# Altium footprint library PcbLib_ADH.PcbLib: 136 footprints (part 1 of 9)
Each footprint in its own frame and in the unit in brackets; x right, y up, seen from the top. Pads: shape width x height; smd on the part's side, far side on the other; paste and mask are expansions set on the pad; w line width, h text height; cw(c..) or ccw(c..) is an arc to the next point about the centre after c.
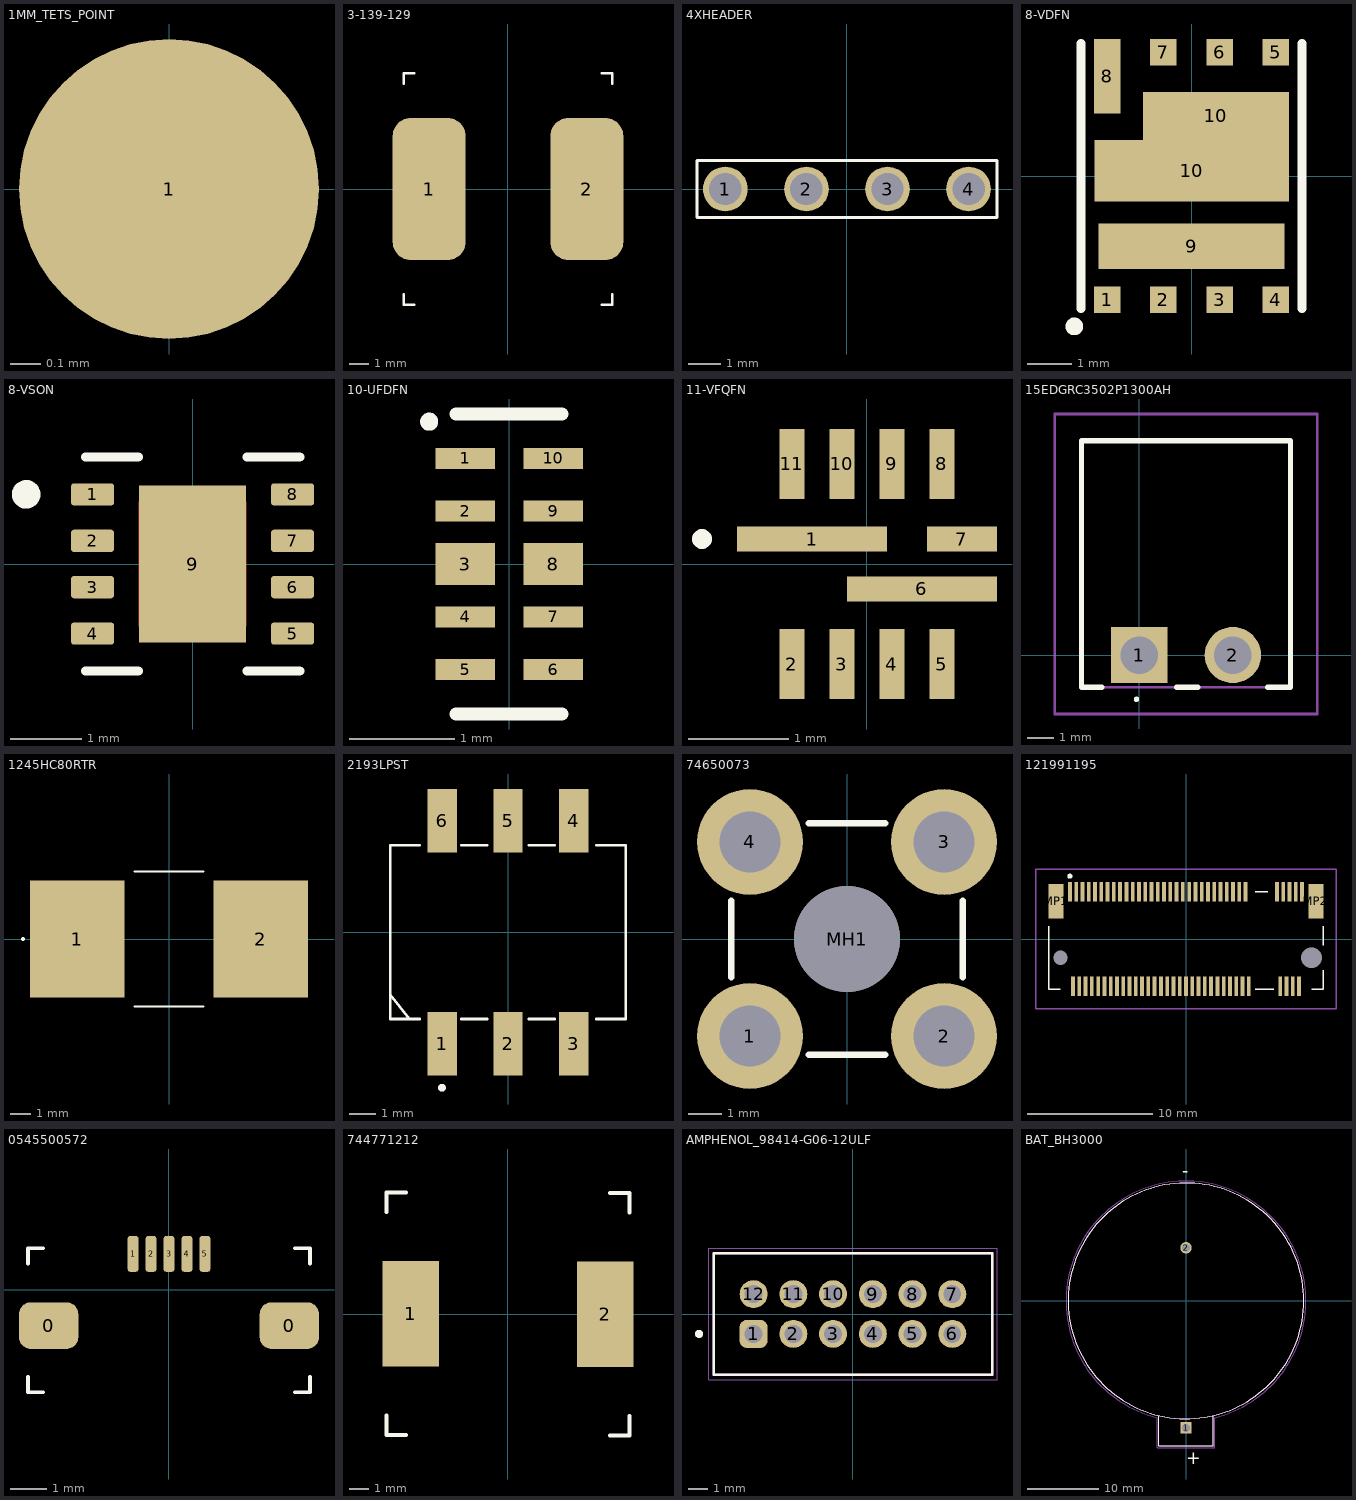
[diagram p0: the footprints below, top view; thin cyan lines are the x and y axes]

## 1MM_TETS_POINT [mm]
pads (1):
  round 1 smd: 1(0,0)

## 3-139-129 [mm]
pads (2):
  rrect50% 3.7x7.2 smd: 1(-3.987,0) 2(3.987,0)
Top Overlay:
  lines w0.127: -5.275,-5.325 -5.275,-5.85 -4.75,-5.85 ; -5.275,5.325 -5.275,5.85 -4.75,5.85 ; 4.75,-5.85 5.275,-5.85 5.275,-5.325 ; 4.75,5.85 5.275,5.85 5.275,5.325
3D body "UHP Fuse D10-058-537_02.STEP": height 6.93, standoff 0.08, extent -5.111,-5.7 5.111,5.7

## 4XHEADER [mm]
pads (4):
  round 1.4 hole 1.016: 1(-3.81,0) 2(-1.27,0) 3(1.27,0) 4(3.81,0)
Top Overlay:
  lines w0.1: -4.699,-0.889 4.7,-0.889 4.7,0.889 -4.699,0.889 -4.699,-0.889
3D body "User Library-128x64I2COLEDDisplayAdafruit.STEP": height 14.47, standoff 3.63, extent -13.4,-25.675 13.3,2.185
3D body "User Library-ZL262-4SG.STEP": height 7.91, standoff -3.64, extent -5.1,-1.35 5.06,1.15

## 8-VDFN [mm]
pads (11):
  rect 0.6x0.6 smd: 1(-1.905,-2.8) 2(-0.635,-2.8) 3(0.635,-2.8) 4(1.905,-2.8) 5(1.905,2.8) 6(0.635,2.8) 7(-0.635,2.8)
  rect 0.6x1.68 smd: 8(-1.905,2.26)
  rect 4.2x1.03 smd: 9(0,-1.585)
  rect 4.4x1.39 smd: 10(0,0.125)
  rect 3.3x1.08 smd: 10(0.55,1.36)
Top Overlay:
  circle w0.2: c-2.65,-3.4 r0.1
  lines w0.2: -2.5,-3 -2.5,3 ; 2.5,-3 2.5,3
3D body "AOE6930.stp": height 0.95, standoff 0, extent -2.5,-3.04 2.5,3.04

## 8-VSON [mm]
pads (9):
  rrect25% 0.6x0.31 smd mask+0: 1(-1.4,0.975) 2(-1.4,0.325) 3(-1.4,-0.325) 4(-1.4,-0.975) 5(1.4,-0.975) 6(1.4,-0.325) 7(1.4,0.325) 8(1.4,0.975)
  rect 1.5x2.2 smd paste-2 mask+0: 9(0,0)
Top Layer:
  region: 0.44,0.875 0.75,0.875 0.75,-0.875 0.44,-0.875 0.21,-0.875 -0.21,-0.875 -0.44,-0.875 -0.75,-0.875 -0.75,0.875 -0.44,0.875 -0.21,0.875 0.21,0.875
Top Overlay:
  circle w0.2: c-2.33,0.975 r0.1
  lines w0.127: -1.5,-1.5 -0.76,-1.5 ; -1.5,1.5 -0.76,1.5 ; 0.76,-1.5 1.5,-1.5 ; 0.76,1.5 1.5,1.5
Top Paste:
  region: 0.75,-1.099 -0.75,-1.099 -0.75,1.1 0.75,1.1
Top Solder:
  region: 0.82,1.15 0.82,-1.15 -0.82,-1.15 -0.82,1.15
  region: -1.03,0.75 -1.77,0.75 -1.77,1.2 -1.03,1.2
  region: 1.77,0.75 1.03,0.75 1.03,1.2 1.77,1.2
  region: -1.03,0.1 -1.77,0.1 -1.77,0.55 -1.03,0.55
  region: -1.03,-0.55 -1.77,-0.55 -1.77,-0.1 -1.03,-0.1
  region: -1.03,-1.2 -1.77,-1.2 -1.77,-0.75 -1.03,-0.75
  region: 1.77,0.1 1.03,0.1 1.03,0.55 1.77,0.55
  region: 1.77,-0.55 1.03,-0.55 1.03,-0.1 1.77,-0.1
  region: 1.77,-1.2 1.03,-1.2 1.03,-0.75 1.77,-0.75
3D body "TPS78601DRBR.STEP": height 1.01, standoff 0.01, extent -1.5,-1.5 1.5,1.5

## 10-UFDFN [mm]
pads (10):
  rect 0.565x0.2 smd mask+0: 1(-0.417,1) 2(-0.417,0.5) 4(-0.417,-0.5) 5(-0.417,-1) 6(0.417,-1) 7(0.417,-0.5) 9(0.417,0.5) 10(0.417,1)
  rect 0.565x0.4 smd paste-1 mask+0: 3(-0.417,0) 8(0.417,0)
Top Overlay:
  circle w0.1: c-0.758,1.347 r0.035
  lines w0.127: -0.5,-1.42 0.5,-1.42 ; -0.5,1.42 0.5,1.42
Top Paste:
  region: 0.7,-0.18 0.135,-0.18 0.135,0.18 0.7,0.18
  region: -0.135,-0.18 -0.7,-0.18 -0.7,0.18 -0.135,0.18
Top Solder:
  region: 0.77,-1.17 0.065,-1.17 0.065,-0.83 0.77,-0.83
  region: 0.77,-0.67 0.065,-0.67 0.065,-0.33 0.77,-0.33
  region: 0.77,-0.27 0.065,-0.27 0.065,0.27 0.77,0.27
  region: 0.77,0.33 0.065,0.33 0.065,0.67 0.77,0.67
  region: 0.77,0.83 0.065,0.83 0.065,1.17 0.77,1.17
  region: -0.065,-1.17 -0.77,-1.17 -0.77,-0.83 -0.065,-0.83
  region: -0.065,-0.67 -0.77,-0.67 -0.77,-0.33 -0.065,-0.33
  region: -0.065,-0.27 -0.77,-0.27 -0.77,0.27 -0.065,0.27
  region: -0.065,0.33 -0.77,0.33 -0.77,0.67 -0.065,0.67
  region: -0.065,0.83 -0.77,0.83 -0.77,1.17 -0.065,1.17
3D body "step_temp.STEP": height 0.55, standoff 0, extent -0.5,-1.25 0.5,1.25

## 11-VFQFN [mm]
pads (11):
  rect 1.5x0.25 smd: 1(-0.55,0.25) 6(0.55,-0.25)
  rect 0.25x0.7 smd: 2(-0.75,-1) 3(-0.25,-1) 4(0.25,-1) 5(0.75,-1) 8(0.75,1) 9(0.25,1) 10(-0.25,1) 11(-0.75,1)
  rect 0.7x0.25 smd: 7(0.95,0.25)
Top Overlay:
  lines w0.1: -1.7,0.25 ccw(c-1.65,0.25) -1.6,0.25 ccw(c-1.65,0.25) -1.7,0.25
3D body "MP2384CGG-Z.stp": height 1.1, standoff 0, extent -1,-1 1,1

## 15EDGRC3502P1300AH [mm]
pads (2):
  rect 2.1x2.1 hole 1.4: 1(0,0)
  round 2.1 hole 1.4: 2(3.5,0)
Top Overlay:
  lines w0.1: -0.1,-1.7 ccw(c-0.1,-1.65) -0.1,-1.6 ; -0.1,-1.7 cw(c-0.1,-1.65) -0.1,-1.6 ; -0.1,-1.7 ccw(c-0.1,-1.65) -0.1,-1.6
  lines w0.2: -1.4,-1.2 -2.15,-1.2 -2.15,8 5.65,8 5.65,-1.2 4.8,-1.2 ; 1.4,-1.2 2.2,-1.2
Mechanical 15:
  lines w0.1: -2.15,-1.2 5.65,-1.2 5.65,8 -2.15,8 -2.15,-1.2
Mechanical 20:
  lines w0.1: -3.15,-2.2 6.65,-2.2 6.65,9 -3.15,9 -3.15,-2.2
3D body "User Library-15EDGRC-3_5-2.STEP": height 7.2, standoff -3.4, extent -2.15,-1.2 5.65,8
3D body "User Library-15EDGK-3_5-02P.STEP": height 8.1, standoff -3, extent -2.1,1.5 5.7,17.1

## 1245HC80RTR [mm]
pads (2):
  rect 4.7x5.8 smd: 1(-4.55,0) 2(4.55,0)
Top Overlay:
  lines w0.1: -1.725,-3.35 0,-3.35 1.725,-3.35 ; -1.725,3.35 0,3.35 1.725,3.35 ; -7.3,0 ccw(c-7.25,0) -7.2,0 ccw(c-7.25,0) -7.3,0
3D body "1245HC80-RTR.stp": height 4.5, standoff 0, extent -6.15,-2.25 6.15,2.25

## 2193LPST [mm]
pads (6):
  rect 1.13x2.44 smd: 1(-2.54,-4.3) 2(0,-4.3) 3(2.54,-4.3) 4(2.54,4.3) 5(0,4.3) 6(-2.54,4.3)
Top Overlay:
  lines w0.1: -4.545,-2.4 -3.8,-3.35 ; -4.545,-3.35 -4.545,3.35 ; -4.545,-3.35 -4.545,3.35 ; -4.545,-3.35 -3.4,-3.35 -4.545,-3.35 ; -4.545,3.35 -3.4,3.35 -4.545,3.35 ; 4.545,-3.35 4.545,3.35 ; 4.545,-3.35 4.545,3.35 ; 4.545,-3.35 3.4,-3.35 4.545,-3.35 ; 4.545,3.35 3.4,3.35 4.545,3.35 ; -1.8,-3.35 -0.8,-3.35 -1.8,-3.35 ; -1.8,3.35 -0.8,3.35 -1.8,3.35 ; 0.8,-3.35 1.8,-3.35 0.8,-3.35 ; 0.8,3.35 1.8,3.35 0.8,3.35
  lines w0.2: -2.6,-6 ccw(c-2.55,-6) -2.5,-6 ; -2.6,-6 cw(c-2.55,-6) -2.5,-6 ; -2.6,-6 ccw(c-2.55,-6) -2.5,-6
3D body "219-3LPST.stp": height 4.2, standoff 0, extent -4.545,-4.955 4.545,4.955

## 74650073 [mm] "REDCUBE THR with internal thread, M3x2.5mm, through"
height 3
pads (5):
  round 3.2 hole 1.85: 1(-2.935,-2.935) 2(2.935,-2.935) 3(2.935,2.935) 4(-2.935,2.935)
  round 3.2 hole 3.2 unplated: MH1(0,0)
Top Overlay:
  lines w0.2: -3.5,-1.15 -3.5,1.15 ; -1.15,-3.5 1.15,-3.5 ; -1.15,3.5 1.15,3.5 ; 3.5,-1.15 3.5,1.15
Top Paste:
  region: -2.935,-4.485 -3.088,-4.485 -3.387,-4.425 -3.669,-4.309 -3.923,-4.139 -4.139,-3.923 -4.309,-3.669 -4.425,-3.387 -4.485,-3.088 -4.485,-2.935 -4.485,-2.782 -4.425,-2.483 -4.309,-2.201 -4.139,-1.947 -3.923,-1.731 -3.669,-1.561 -3.387,-1.445 -3.088,-1.385 -2.935,-1.385 -2.782,-1.385 -2.483,-1.445 -2.201,-1.561 -1.947,-1.731 -1.731,-1.947 -1.561,-2.201 -1.445,-2.483 -1.385,-2.782 -1.385,-2.935 -1.385,-3.088 -1.445,-3.387 -1.561,-3.669 -1.731,-3.923 -1.947,-4.139 -2.201,-4.309 -2.483,-4.425 -2.782,-4.485
  region: 2.935,-4.485 2.782,-4.485 2.483,-4.425 2.201,-4.309 1.947,-4.139 1.731,-3.923 1.561,-3.669 1.445,-3.387 1.385,-3.088 1.385,-2.935 1.385,-2.782 1.445,-2.483 1.561,-2.201 1.731,-1.947 1.947,-1.731 2.201,-1.561 2.483,-1.445 2.782,-1.385 2.935,-1.385 3.088,-1.385 3.387,-1.445 3.669,-1.561 3.923,-1.731 4.139,-1.947 4.309,-2.201 4.425,-2.483 4.485,-2.782 4.485,-2.935 4.485,-3.088 4.425,-3.387 4.309,-3.669 4.139,-3.923 3.923,-4.139 3.669,-4.309 3.387,-4.425 3.088,-4.485
  region: 2.935,1.385 2.782,1.385 2.483,1.445 2.201,1.561 1.947,1.731 1.731,1.947 1.561,2.201 1.445,2.483 1.385,2.782 1.385,2.935 1.385,3.088 1.445,3.387 1.561,3.669 1.731,3.923 1.947,4.139 2.201,4.309 2.483,4.425 2.782,4.485 2.935,4.485 3.088,4.485 3.387,4.425 3.669,4.309 3.923,4.139 4.139,3.923 4.309,3.669 4.425,3.387 4.485,3.088 4.485,2.935 4.485,2.782 4.425,2.483 4.309,2.201 4.139,1.947 3.923,1.731 3.669,1.561 3.387,1.445 3.088,1.385
  region: -2.935,1.385 -3.088,1.385 -3.387,1.445 -3.669,1.561 -3.923,1.731 -4.139,1.947 -4.309,2.201 -4.425,2.483 -4.485,2.782 -4.485,2.935 -4.485,3.088 -4.425,3.387 -4.309,3.669 -4.139,3.923 -3.923,4.139 -3.669,4.309 -3.387,4.425 -3.088,4.485 -2.935,4.485 -2.782,4.485 -2.483,4.425 -2.201,4.309 -1.947,4.139 -1.731,3.923 -1.561,3.669 -1.445,3.387 -1.385,3.088 -1.385,2.935 -1.385,2.782 -1.445,2.483 -1.561,2.201 -1.731,1.947 -1.947,1.731 -2.201,1.561 -2.483,1.445 -2.782,1.385
Top Courtyard:
  lines w0.05: -0.5,0 0.5,0 ; 0,-0.5 0,0.5
3D body "74650073.stp": height 3, standoff -2.5, extent -3.5,-3.5 3.5,3.5

## 121991195 [mm]
pads (71):
  rect 0.3x1.55 smd: 1(-9.25,3.775) 2(-9,-3.775) 3(-8.75,3.775) 4(-8.5,-3.775) 5(-8.25,3.775) 6(-8,-3.775) 7(-7.75,3.775) 8(-7.5,-3.775) 9(-7.25,3.775) 10(-7,-3.775) 11(-6.75,3.775) 12(-6.5,-3.775) 13(-6.25,3.775) 14(-6,-3.775) 15(-5.75,3.775) 16(-5.5,-3.775) 17(-5.25,3.775) 18(-5,-3.775) 19(-4.75,3.775) 20(-4.5,-3.775) 21(-4.25,3.775) 22(-4,-3.775) 23(-3.75,3.775) 24(-3.5,-3.775) 25(-3.25,3.775) 26(-3,-3.775) 27(-2.75,3.775) 28(-2.5,-3.775) 29(-2.25,3.775) 30(-2,-3.775) 31(-1.75,3.775) 32(-1.5,-3.775) 33(-1.25,3.775) 34(-1,-3.775) 35(-0.75,3.775) 36(-0.5,-3.775) 37(-0.25,3.775) 38(0,-3.775) 39(0.25,3.775) 40(0.5,-3.775) 41(0.75,3.775) 42(1,-3.775) 43(1.25,3.775) 44(1.5,-3.775) 45(1.75,3.775) 46(2,-3.775) 47(2.25,3.775) 48(2.5,-3.775) 49(2.75,3.775) 50(3,-3.775) 51(3.25,3.775) 52(3.5,-3.775) 53(3.75,3.775) 54(4,-3.775) 55(4.25,3.775) 56(4.5,-3.775) 57(4.75,3.775) 58(5,-3.775) 67(7.25,3.775) 68(7.5,-3.775) 69(7.75,3.775) 70(8,-3.775) 71(8.25,3.775) 72(8.5,-3.775) 73(8.75,3.775) 74(9,-3.775) 75(9.25,3.775)
  round 0.575 hole 1.15 unplated: MH1(-10,-1.5)
  round 0.825 hole 1.65 unplated: MH2(10,-1.5)
  rect 1.2x2.75 smd: MP1(-10.35,3) MP2(10.35,3)
Top Overlay:
  lines w0.1: -10.95,1 -10.95,-4 -10,-4 ; 5.5,-4 7,-4 ; 5.5,3.775 6.5,3.775 ; 10,-4 10.95,-4 10.95,-2.5 ; 10.95,-0.5 10.95,1
  lines w0.2: -9.25,4.9 cw(c-9.25,5) -9.25,5.1 cw(c-9.25,5) -9.25,4.9
Mechanical 20:
  lines w0.1: -11.95,-5.55 -11.95,5.55 11.95,5.55 11.95,-5.55 -11.95,-5.55
3D body "1-2199119-5.stp": height 3.09, standoff -0.53, extent -10.975,-4.375 10.925,4.325

## 0545500572 [mm]
pads (7):
  rrect50% 1.65x1.3 smd: 0(-3.35,-1) 0(3.35,-1)
  rrect50% 0.3x1 smd: 1(-1,1) 2(-0.5,1) 3(0,1) 4(0.5,1) 5(1,1)
Top Overlay:
  lines w0.1: -3.925,-2.425 -3.925,-2.85 -3.5,-2.85 ; -3.925,0.725 -3.925,1.15 -3.5,1.15 ; 3.5,-2.85 3.925,-2.85 3.925,-2.425 ; 3.5,1.15 3.925,1.15 3.925,0.725
3D body "545500572.stp": height 1.19, standoff -0.04, extent -3.85,-2.775 3.85,1.075

## 744771212 [mm]
pads (2):
  rect 2.9x5.4 smd: 1(-4.975,0.013) 2(4.975,-0.012)
Top Overlay:
  lines w0.2: -6.225,-5.2 -6.225,-6.2 -5.225,-6.2 ; -6.225,5.225 -6.225,6.225 -5.225,6.225 ; 5.225,-6.225 6.225,-6.225 6.225,-5.225 ; 5.225,6.2 6.225,6.2 6.225,5.2
3D body "744771212.stp": height 8, standoff 0, extent -6,-6 6,6

## AMPHENOL_98414-G06-12ULF [mm]
height 5.9
pads (12):
  rrect50% 1.408x1.408 hole 0.9: 1(-5,-1)
  round 1.408 hole 0.9: 2(-3,-1) 3(-1,-1) 4(1,-1) 5(3,-1) 6(5,-1) 7(5,1) 8(3,1) 9(1,1) 10(-1,1) 11(-3,1) 12(-5,1)
Top Overlay:
  circle w0.2: c-7.75,-1 r0.1
  lines w0.127: -7,-3.05 7,-3.05 7,3.05 -7,3.05 -7,-3.05
Mechanical 13:
  circle w0.2: c-7.75,-1 r0.1
  lines w0.127: -7,-3.05 7,-3.05 7,3.05 -7,3.05 -7,-3.05
Mechanical 15:
  lines w0.05: -7.25,-3.3 7.25,-3.3 7.25,3.3 -7.25,3.3 -7.25,-3.3
3D body "step_temp.STEP": height 5.85, standoff -2.5, extent -7,-3.05 7,3.05

## BAT_BH3000 [mm]
pads (2):
  rect 1.605x1.605 hole 1.07: 1(0,-17.81)
  round 1.605 hole 1.07: 2(0,7.44)
Top Overlay:
  circle w0.127: c0,0 r16.51
  lines w0.127: -3.81,-16.1 -3.81,-20.32 3.81,-20.32 3.81,-16.1
  text "+" at 0,-22.86 h1.78
  text "-" at -0.508,17.399 h1.78
Mechanical 13:
  circle w0.127: c0,0 r16.51
  lines w0.127: -3.81,-16.1 -3.81,-20.32 3.81,-20.32 3.81,-16.1
  text "+" at 0,-22.86 h1.78
  text "-" at -0.508,17.399 h1.78
Mechanical 15:
  lines w0.05: -4.067,-16.348 cw(c0,-0.036) 4.067,-16.348 ; -4.06,-16.35 -4.06,-20.57 4.06,-20.57 4.06,-16.35
3D body "BH3000--3DModel-STEP-1.STEP": height 10.37, standoff -3.6, extent -16.509,-20.32 16.509,16.492